# Altium schematic symbol library 2005280040.SchLib: 2 symbols
Pins are listed as number, name and electrical type; pins without a type are passive.

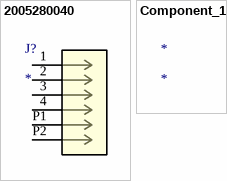
[diagram p0: symbols 2005280040 to Component_1]

## 2005280040
designator J?
No Description Available; Mfr_Name: Molex Connector Corporation; RefDes: RefDes; Type: Type
footprint CON_2005280040_MOL
pins: 1, 2, 3, 4, P1, P2

## Component_1
designator *